# Altium footprint library Switches.PcbLib: 46 footprints (part 2 of 3)
Each footprint in its own frame and in the unit in brackets; x right, y up, seen from the top. Pads: shape width x height; smd on the part's side, far side on the other; paste and mask are expansions set on the pad; w line width, h text height; cw(c..) or ccw(c..) is an arc to the next point about the centre after c.
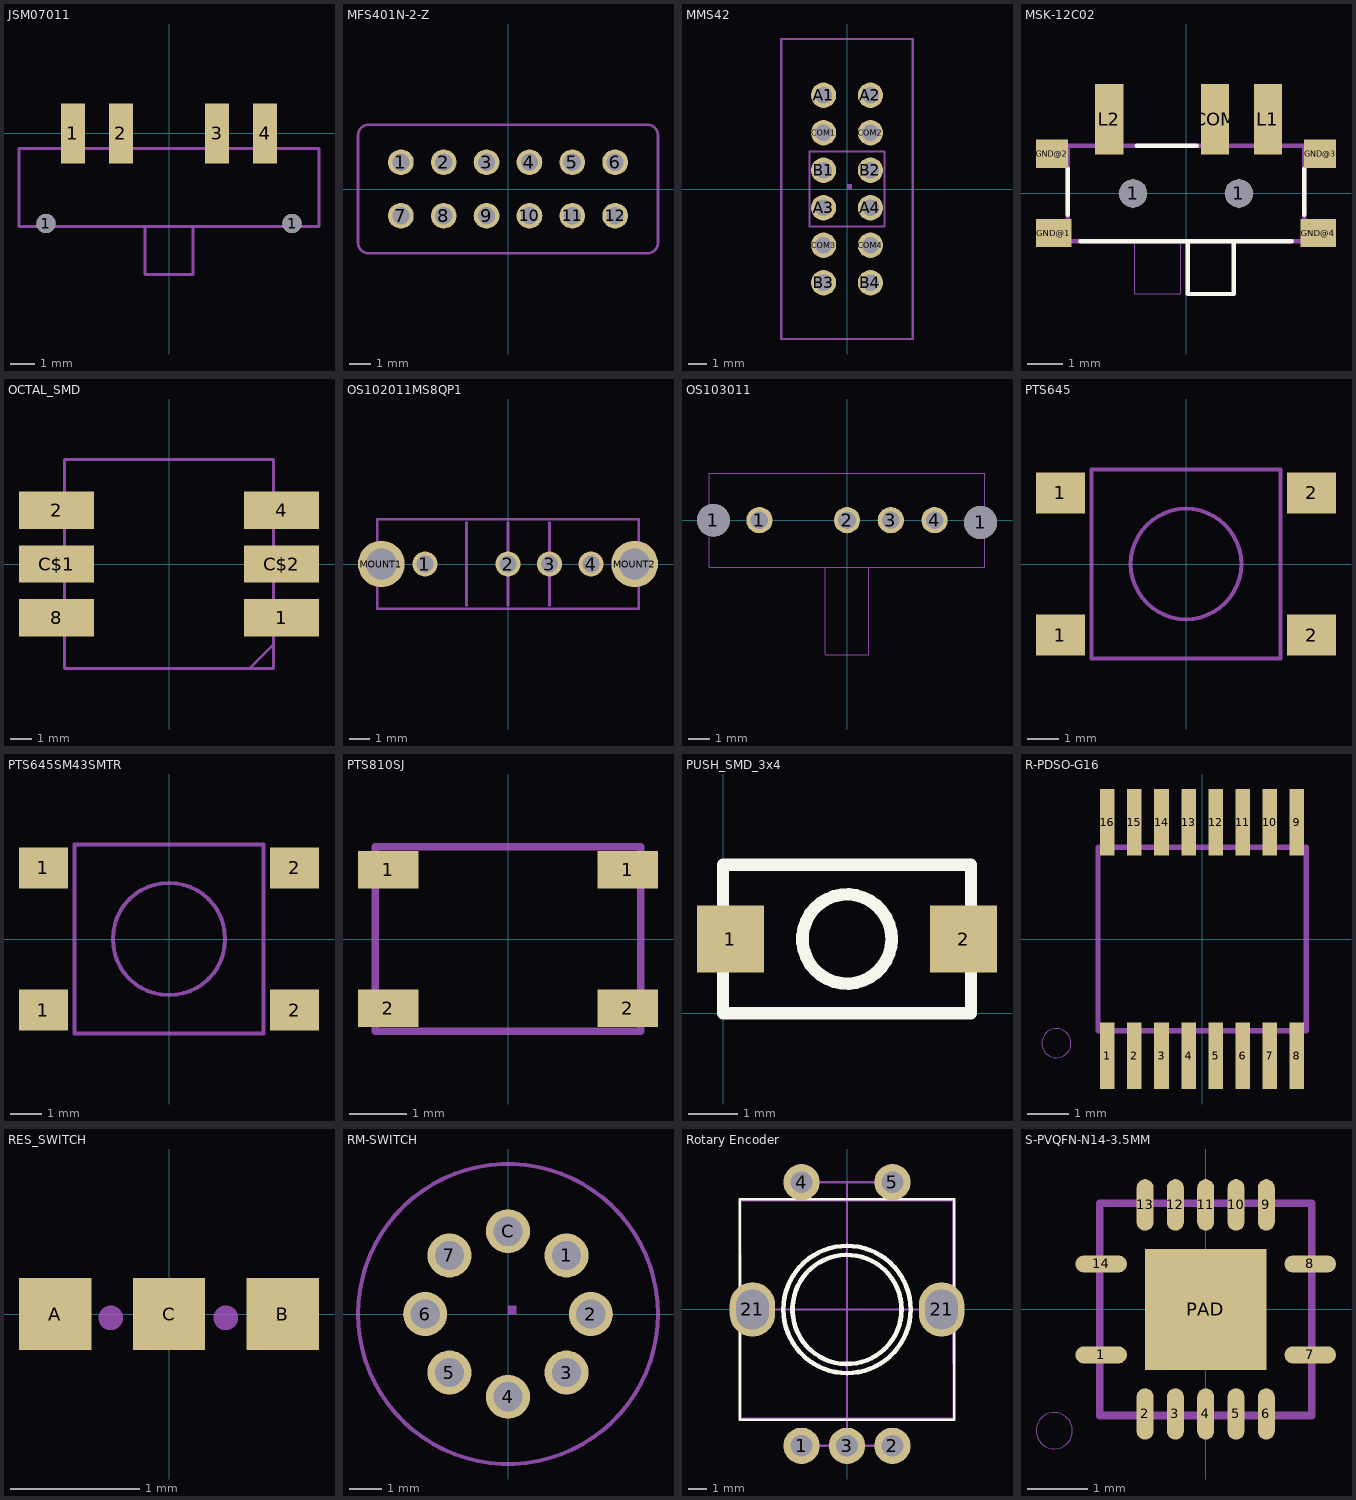
[diagram p1: the footprints below, top view; thin cyan lines are the x and y axes]

## JSM07011 [mm]
pads (6):
  round 0.8 hole 0.8: 1(-5.125,-3.75) 1(5.125,-3.75)
  rect 1x2.5 smd: 1(-4,0) 2(-2,0) 3(2,0) 4(4,0)
Mechanical 2:
  lines w0.127: -1,-3.875 -6.25,-3.875 -6.25,-0.625 6.25,-0.625 6.25,-3.875 1,-3.875 ; -1,-3.875 1,-3.875 ; -1,-3.875 -1,-5.875 1,-5.875 1,-3.875

## MFS401N-2-Z [mm]
pads (12):
  round 1.2 hole 0.8: 1(-5,1.25) 2(-3,1.25) 3(-1,1.25) 4(1,1.25) 5(3,1.25) 6(5,1.25) 7(-5,-1.25) 8(-3,-1.25) 9(-1,-1.25) 10(1,-1.25) 11(3,-1.25) 12(5,-1.25)
Mechanical 2:
  lines w0.127: -7,-2.5 ccw(c-6.5,-2.5) -6.5,-3 6.5,-3 ccw(c6.5,-2.5) 7,-2.5 7,2.5 ccw(c6.5,2.5) 6.5,3 -6.5,3 ccw(c-6.5,2.5) -7,2.5 -7,-2.5

## MMS42 [mm]
pads (12):
  round 1.35 hole 0.9: A1(-1.25,5) A2(1.25,5) A3(-1.25,-1) A4(1.25,-1) B1(-1.25,1) B2(1.25,1) B3(-1.25,-5) B4(1.25,-5) COM1(-1.25,3) COM2(1.25,3) COM3(-1.25,-3) COM4(1.25,-3)
Mechanical 2:
  lines w0.127: -3.5,-8 3.5,-8 3.5,8 -3.5,8 -3.5,-8
Mechanical 18:
  region: 0,0 0.254,0 0.254,0.254 0,0.254
  lines w0.127: -2,-2 2,-2 2,2 -2,2 -2,-2

## MSK-12C02 [mil]
pads (9):
  round 31.5 hole 31.5: 1(-59.06,0) 1(59.06,0)
  rect 31.5x78.74 smd: COM(32.4,82.68) L1(91.46,82.68) L2(-85.71,82.68)
  rect 39.37x31.5 smd: GND@1(-147.64,-44.29) GND@4(147.64,-44.29)
  rect 35.43x31.5 smd: GND@2(-149.61,44.29) GND@3(149.61,44.29)
Top Overlay:
  lines w5: -131.89,-23.62 -131.89,27.56 ; -118.11,-53.15 1.97,-53.15 ; -55.12,53.15 11.81,53.15 ; 118.11,-53.15 53.15,-53.15 ; 131.89,-23.62 131.89,27.56 ; 1.97,-53.15 53.15,-53.15 ; 1.97,-53.15 1.97,-112.2 53.15,-112.2 53.15,-53.15
Mechanical 8:
  lines w0.98: -57.09,-53.15 -57.09,-112.2 -5.91,-112.2 -5.91,-53.15
  lines w1.97: -133.86,-53.15 -157.48,-53.15 -157.48,-35.43 -133.86,-35.43 ; -131.89,35.43 -157.48,35.43 -157.48,53.15 -131.89,53.15 ; -93.58,53.15 -93.58,92.52 -77.83,92.52 -77.83,53.15 ; -74.8,0 -59.06,0 ; -59.06,-15.75 -59.06,0 ; -59.06,15.75 -59.06,0 ; -43.31,0 -59.06,0 ; 24.53,53.15 24.53,92.52 40.28,92.52 40.28,53.15 ; 43.31,0 59.06,0 ; 59.06,-15.75 59.06,0 ; 59.06,15.75 59.06,0 ; 74.8,0 59.06,0 ; 83.58,53.15 83.58,92.52 99.33,92.52 99.33,53.15 ; 133.86,-53.15 157.48,-53.15 157.48,-35.43 133.86,-35.43 ; 133.86,35.43 157.48,35.43 157.48,53.15 133.86,53.15
  lines w3.94: 1.97,-53.15 1.97,-112.2 53.15,-112.2 53.15,-53.15
  lines w5: -131.89,-53.15 -131.89,35.43 -131.89,53.15 -93.58,53.15 -77.83,53.15 24.53,53.15 40.28,53.15 83.58,53.15 99.33,53.15 131.89,53.15 131.89,-53.15 -5.91,-53.15 -57.09,-53.15 -131.89,-53.15
3D body "slideswitch.step": height 45.67, standoff -19.68, extent -151.57,-110.23 151.58,86.62

## OCTAL_SMD [mil]
pads (6):
  rect 140x70 smd: 1(210,-100) 2(-210,100) 4(210,100) 8(-210,-100) C$1(-210,0) C$2(210,0)
Mechanical 2:
  lines w5: 150,-195 195,-150 ; 150,-195 195,-195 195,-150 ; 150,-195 -195,-195 -195,195 195,195 195,-150

## OS102011MS8QP1 [mil]
pads (6):
  round 47.25 hole 31.5: 1(-157.48,0) 2(0,0) 3(78.74,0) 4(157.48,0)
  round 88.59 hole 59.06: MOUNT1(-240.16,0) MOUNT2(240.16,0)
Mechanical 2:
  lines w5: -248.03,-84.65 -248.03,84.65 248.03,84.65 248.03,-84.65 -248.03,-84.65
Mechanical 18:
  lines w5: -78.74,-78.74 -78.74,78.74 ; 0,-78.74 0,78.74 ; 78.74,-78.74 78.74,78.74

## OS103011 [mil]
pads (6):
  round 59.06 hole 59.06: 1(-240.16,0) 1(240.16,-3.94)
  round 47.25 hole 31.5: 1(-157.48,0) 2(0,0) 3(78.74,0) 4(157.48,0)
Mechanical 2:
  lines w1.18: -39.37,-84.65 -39.37,-242.13 39.37,-242.13 39.37,-84.65 ; -39.37,-84.65 39.37,-84.65 ; -39.37,-84.65 -248.03,-84.65 -248.03,84.65 248.03,84.65 248.03,-84.65 39.37,-84.65

## PTS645 [mil]
pads (4):
  rect 61.02x51.18 smd: 1(-156.5,-88.58) 1(-156.5,88.58) 2(156.5,-88.58) 2(156.5,88.58)
Mechanical 2:
  circle w5: c0,0 r68.9
  lines w5: -118.11,-118.11 118.11,-118.11 118.11,118.11 -118.11,118.11 -118.11,-118.11

## PTS645SM43SMTR [mil]
pads (4):
  rect 61.02x51.18 smd: 1(-156.5,-88.58) 1(-156.5,88.58) 2(156.5,-88.58) 2(156.5,88.58)
Mechanical 2:
  circle w5: c0,0 r70
  lines w5: -118.11,-118.11 118.11,-118.11 118.11,118.11 -118.11,118.11 -118.11,-118.11

## PTS810SJ [mm]
pads (4):
  rect 1.05x0.65 smd: 1(-2.075,1.2) 1(2.075,1.2) 2(-2.075,-1.2) 2(2.075,-1.2)
Mechanical 2:
  lines w0.127: -2.3,-1.6 -2.3,1.6 2.3,1.6 2.3,-1.6 -2.3,-1.6

## PUSH_SMD_3x4 [mm]
pads (2):
  rect 1.35x1.35 smd: 1(0.15,1.5) 2(4.85,1.5)
Top Overlay:
  circle w0.254: c2.5,1.5 r0.9
  lines w0.25: 0,0 5,0 5,3 0,3 0,0
3D body "User Library-Pushbutton3x4x2.step": height 2, standoff 0, extent 0.05,0.05 4.95,2.95

## R-PDSO-G16 [mm]
pads (16):
  rect 0.35x1.6 smd: 1(-2.275,-2.8) 2(-1.625,-2.8) 3(-0.975,-2.8) 4(-0.325,-2.8) 5(0.325,-2.8) 6(0.975,-2.8) 7(1.625,-2.8) 8(2.275,-2.8) 9(2.275,2.8) 10(1.625,2.8) 11(0.975,2.8) 12(0.325,2.8) 13(-0.325,2.8) 14(-0.975,2.8) 15(-1.625,2.8) 16(-2.275,2.8)
Mechanical 2:
  circle w0: c-3.5,-2.5 r0.35
  lines w0.127: -2.5,-2.2 -2.5,2.2 2.5,2.2 2.5,-2.2 -2.5,-2.2

## RES_SWITCH [mm]
pads (3):
  rect 0.56x0.56 smd: A(-0.88,0) B(0.88,0) C(0,0)
Mechanical 2:
  circle w0.127: c0.44,-0.03 r0.032
  circle w0.127: c-0.45,-0.03 r0.032

## RM-SWITCH [mm]
pads (8):
  round 1.35 hole 0.9: 1(1.796,1.796) 2(2.54,0) 3(1.796,-1.796) 4(0,-2.54) 5(-1.796,-1.796) 6(-2.54,0) 7(-1.796,1.796) C(0,2.54)
Mechanical 2:
  circle w0.127: c0,0 r4.6
  region: 0,0 0.254,0 0.254,0.254 0,0.254

## Rotary Encoder [mm]
pads (7):
  round 2 hole 1.2: 1(-2.5,-7.5) 2(2.5,-7.5) 3(0,-7.5) 4(-2.5,7) 5(2.5,7)
  oval 2.5x3 hole 2.2 slot 1.8 at 0 deg: 21(-5.2,0) 21(5.2,0)
Top Overlay:
  circle w0.254: c0,0 r3.5
  circle w0.254: c0,0 r3
  lines w0.127: -5.9,-6.06 -5.9,6.06 5.9,6.06 5.9,-6.06 -5.9,-6.06
Mechanical 1:
  lines w0.127: -5.2,0 0,0 ; -2.5,-7.5 0,-7.5 ; -2.5,7 0,7 ; 2.5,-7.5 0,-7.5 ; 2.5,7 0,7 ; 5.2,0 0,0 ; 0,-7.5 0,0 ; 0,0 0,7 ; -5.86,6 -5.85,0 -5.84,-6 0.01,-6 5.86,-6 5.85,0 5.84,6 -0.01,6 -5.86,6
3D body "EC11_Rotary_Encoder_Switched.step": height 26.65, standoff -3.43, extent -6.545,-7.93 6.545,7.33

## S-PVQFN-N14-3.5MM [mm]
pads (15):
  rrect100% 0.85x0.28 smd: 1(-1.725,-0.75) 7(1.725,-0.75) 8(1.725,0.75) 14(-1.725,0.75)
  rrect100% 0.28x0.85 smd: 2(-1,-1.725) 3(-0.5,-1.725) 4(0,-1.725) 5(0.5,-1.725) 6(1,-1.725) 9(1,1.725) 10(0.5,1.725) 11(0,1.725) 12(-0.5,1.725) 13(-1,1.725)
  rect 2x2 smd paste-1: PAD(0,0)
Top Paste:
  rectangle: -0.5,-0.5 0.5,0.5
Mechanical 2:
  circle w0: c-2.5,-2 r0.3
  lines w0.127: -1.75,-1.75 -1.75,1.75 1.75,1.75 1.75,-1.75 -1.75,-1.75